# EAGLE library part RFB300-24S28Y (library New Power Board Library)
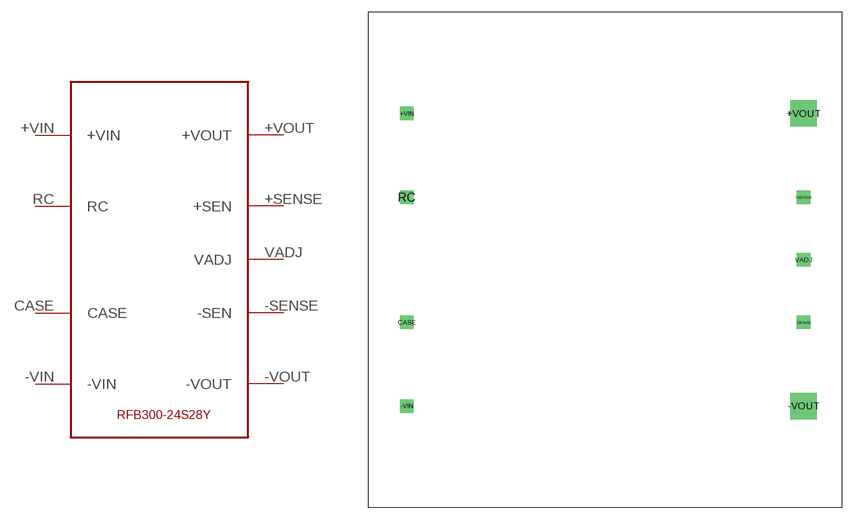
[diagram p0: symbol with the pads of RFB300/350; footprint RFB300/350]

Designator prefix U

## RFB300-24S28Y  [RFB300/350]
+SENSE  +SEN
+VIN  +VIN  pwr
+VOUT  +VOUT  pwr
-SENSE  -SEN
-VIN  -VIN  pwr
-VOUT  -VOUT  pwr
CASE  CASE
RC  RC
VADJ  VADJ

## Footprint RFB300/350 (pad centres in mm)
drill 1.1 square: +SENSE 24.13,7.62; +VIN -24.13,17.78; -SENSE 24.13,-7.62; -VIN -24.13,-17.78; CASE -24.13,-7.62; RC -24.13,7.62; VADJ 24.13,0
drill 2.2 square: +VOUT 24.13,17.78; -VOUT 24.13,-17.78